# Altium schematic symbol library SCH - MCU - NUVOTON - NUVOTON MINI55ZDE.SchLib: 1 symbol
Pins are listed as number, name and electrical type; pins without a type are passive.

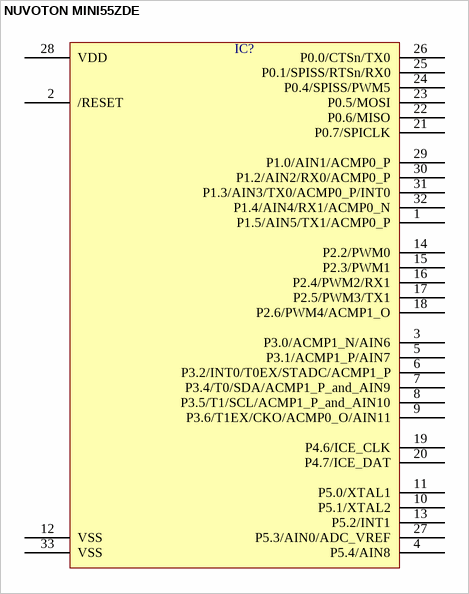
[diagram p0: symbol NUVOTON MINI55ZDE]

## NUVOTON MINI55ZDE
designator IC?  (value not drawn)
pins: 1 P1.5/AIN5/TX1/ACMP0_P, 2 /RESET, 3 P3.0/ACMP1_N/AIN6, 4 P5.4/AIN8, 5 P3.1/ACMP1_P/AIN7, 6 P3.2/INT0/T0EX/STADC/ACMP1_P, 7 P3.4/T0/SDA/ACMP1_P_and_AIN9, 8 P3.5/T1/SCL/ACMP1_P_and_AIN10, 9 P3.6/T1EX/CKO/ACMP0_O/AIN11, 10 P5.1/XTAL2, 11 P5.0/XTAL1, 12 VSS, 13 P5.2/INT1, 14 P2.2/PWM0, 15 P2.3/PWM1, 16 P2.4/PWM2/RX1, 17 P2.5/PWM3/TX1, 18 P2.6/PWM4/ACMP1_O, 19 P4.6/ICE_CLK, 20 P4.7/ICE_DAT, 21 P0.7/SPICLK, 22 P0.6/MISO, 23 P0.5/MOSI, 24 P0.4/SPISS/PWM5, 25 P0.1/SPISS/RTSn/RX0, 26 P0.0/CTSn/TX0, 27 P5.3/AIN0/ADC_VREF, 28 VDD, 29 P1.0/AIN1/ACMP0_P, 30 P1.2/AIN2/RX0/ACMP0_P, 31 P1.3/AIN3/TX0/ACMP0_P/INT0, 32 P1.4/AIN4/RX1/ACMP0_N, 33 VSS